# EAGLE library part SUBMINI_DP (library _mtvl.switch)
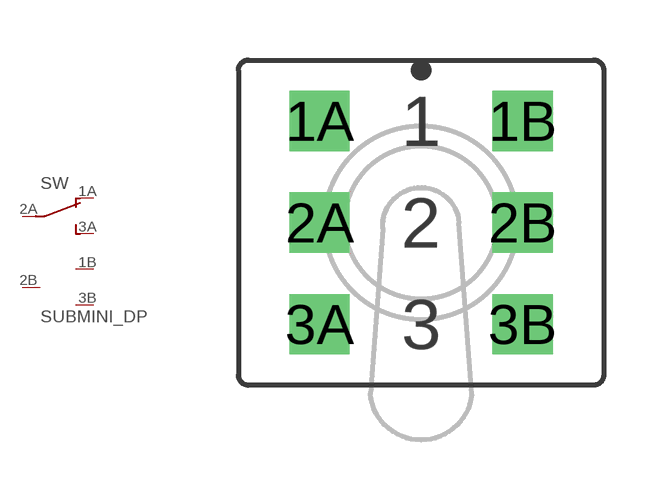
[diagram p0: symbol with the pads of 2MD1T1B1M2; footprint 2MD1T1B1M2]

Designator prefix SW

## SUBMINI_DP  [2MD1T1B1M2]
1A  1  pas
1B  4  pas
2A  2  pas
2B  5  pas
3A  3  pas
3B  6  pas

## Footprint 2MD1T1B1M2 (pad centres in mm)
drill 1 square: 1A -2.54,2.54; 1B 2.54,2.54; 2A -2.54,0; 2B 2.54,0; 3A -2.54,-2.54; 3B 2.54,-2.54